# Altium footprint library PC-104 16 bit bus.PcbLib: 2 footprints
Each footprint in its own frame and in the unit in brackets; x right, y up, seen from the top. Pads: shape width x height; smd on the part's side, far side on the other; paste and mask are expansions set on the pad; w line width, h text height; cw(c..) or ccw(c..) is an arc to the next point about the centre after c.
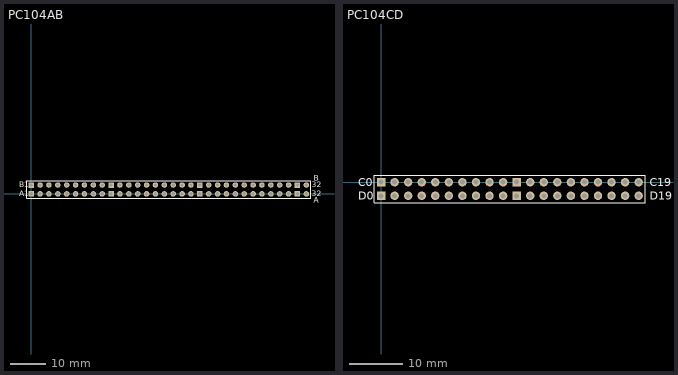
[diagram p0: the footprints below, top view; thin cyan lines are the x and y axes]

## PC104AB [mil]
pads (64):
  rect 62x62 hole 37: A1(0,0) A10(900,0) A20(1900,0) A31(3000,0) B1(0,100) B10(900,100) B20(1900,100) B31(3000,100)
  round 62 hole 37: A2(100,0) A3(200,0) A4(300,0) A5(400,0) A6(500,0) A7(600,0) A8(700,0) A9(800,0) A11(1000,0) A12(1100,0) A13(1200,0) A14(1300,0) A15(1400,0) A16(1500,0) A17(1600,0) A18(1700,0) A19(1800,0) A21(2000,0) A22(2100,0) A23(2200,0) A24(2300,0) A25(2400,0) A26(2500,0) A27(2600,0) A28(2700,0) A29(2800,0) A30(2900,0) A32(3100,0) B2(100,100) B3(200,100) B4(300,100) B5(400,100) B6(500,100) B7(600,100) B8(700,100) B9(800,100) B11(1000,100) B12(1100,100) B13(1200,100) B14(1300,100) B15(1400,100) B16(1500,100) B17(1600,100) B18(1700,100) B19(1800,100) B21(2000,100) B22(2100,100) B23(2200,100) B24(2300,100) B25(2400,100) B26(2500,100) B27(2600,100) B28(2700,100) B29(2800,100) B30(2900,100) B32(3100,100)
Top Overlay:
  lines w8: -50,-50 3150,-50 3150,150 -50,150 -50,-50
  text "B1" at -137.5,75 h60
  text "A1" at -137.5,-25 h60
  text "32" at 3160,-25 h60
  text "32" at 3160,75 h60
  text "A" at 3182.5,-100 h60
  text "B" at 3182.5,150 h60

## PC104CD [mil]
pads (40):
  rect 62x62 hole 37: C0(0,0) C10(1000,0) D0(0,-100) D10(1000,-100)
  round 62 hole 37: C1(100,0) C2(200,0) C3(300,0) C4(400,0) C5(500,0) C6(600,0) C7(700,0) C8(800,0) C9(900,0) C11(1100,0) C12(1200,0) C13(1300,0) C14(1400,0) C15(1500,0) C16(1600,0) C17(1700,0) C18(1800,0) C19(1900,0) D1(100,-100) D2(200,-100) D3(300,-100) D4(400,-100) D5(500,-100) D6(600,-100) D7(700,-100) D8(800,-100) D9(900,-100) D11(1100,-100) D12(1200,-100) D13(1300,-100) D14(1400,-100) D15(1500,-100) D16(1600,-100) D17(1700,-100) D18(1800,-100) D19(1900,-100)
Top Overlay:
  lines w8: -50,-150 1950,-150 1950,50 -50,50 -50,-150
  text "C0" at -170,-30 h60
  text "D0" at -170,-130 h60
  text "C19" at 1982.5,-30 h60
  text "D19" at 1982.5,-130 h60